# Altium schematic symbol library SCH - LEVEL - TI TXS0108EPWR.SCHLIB: 1 symbol
Pins are listed as number, name and electrical type; pins without a type are passive.

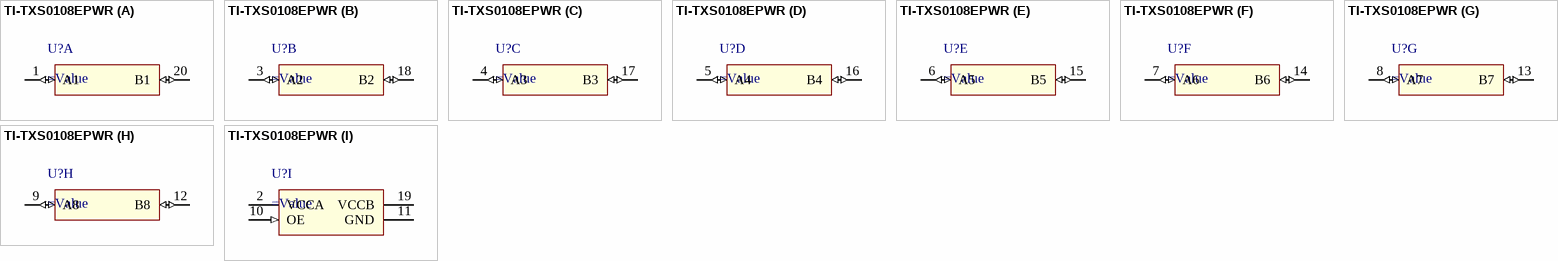
[diagram p0: symbol TI-TXS0108EPWR]

## TI-TXS0108EPWR
designator U?
8 Bit bidirictional level shifter with integrated pull up resistors and one shot output circuit
part A pins: 1 A1 (io), 20 B1 (io)
part B pins: 3 A2 (io), 18 B2 (io)
part C pins: 4 A3 (io), 17 B3 (io)
part D pins: 5 A4 (io), 16 B4 (io)
part E pins: 6 A5 (io), 15 B5 (io)
part F pins: 7 A6 (io), 14 B6 (io)
part G pins: 8 A7 (io), 13 B7 (io)
part H pins: 9 A8 (io), 12 B8 (io)
part I pins: 2 VCCA (power), 10 OE (in), 11 GND (power), 19 VCCB (power)